# Altium footprint library 一体成型电感.PcbLib: 13 footprints
Each footprint in its own frame and in the unit in brackets; x right, y up, seen from the top. Pads: shape width x height; smd on the part's side, far side on the other; paste and mask are expansions set on the pad; w line width, h text height; cw(c..) or ccw(c..) is an arc to the next point about the centre after c.
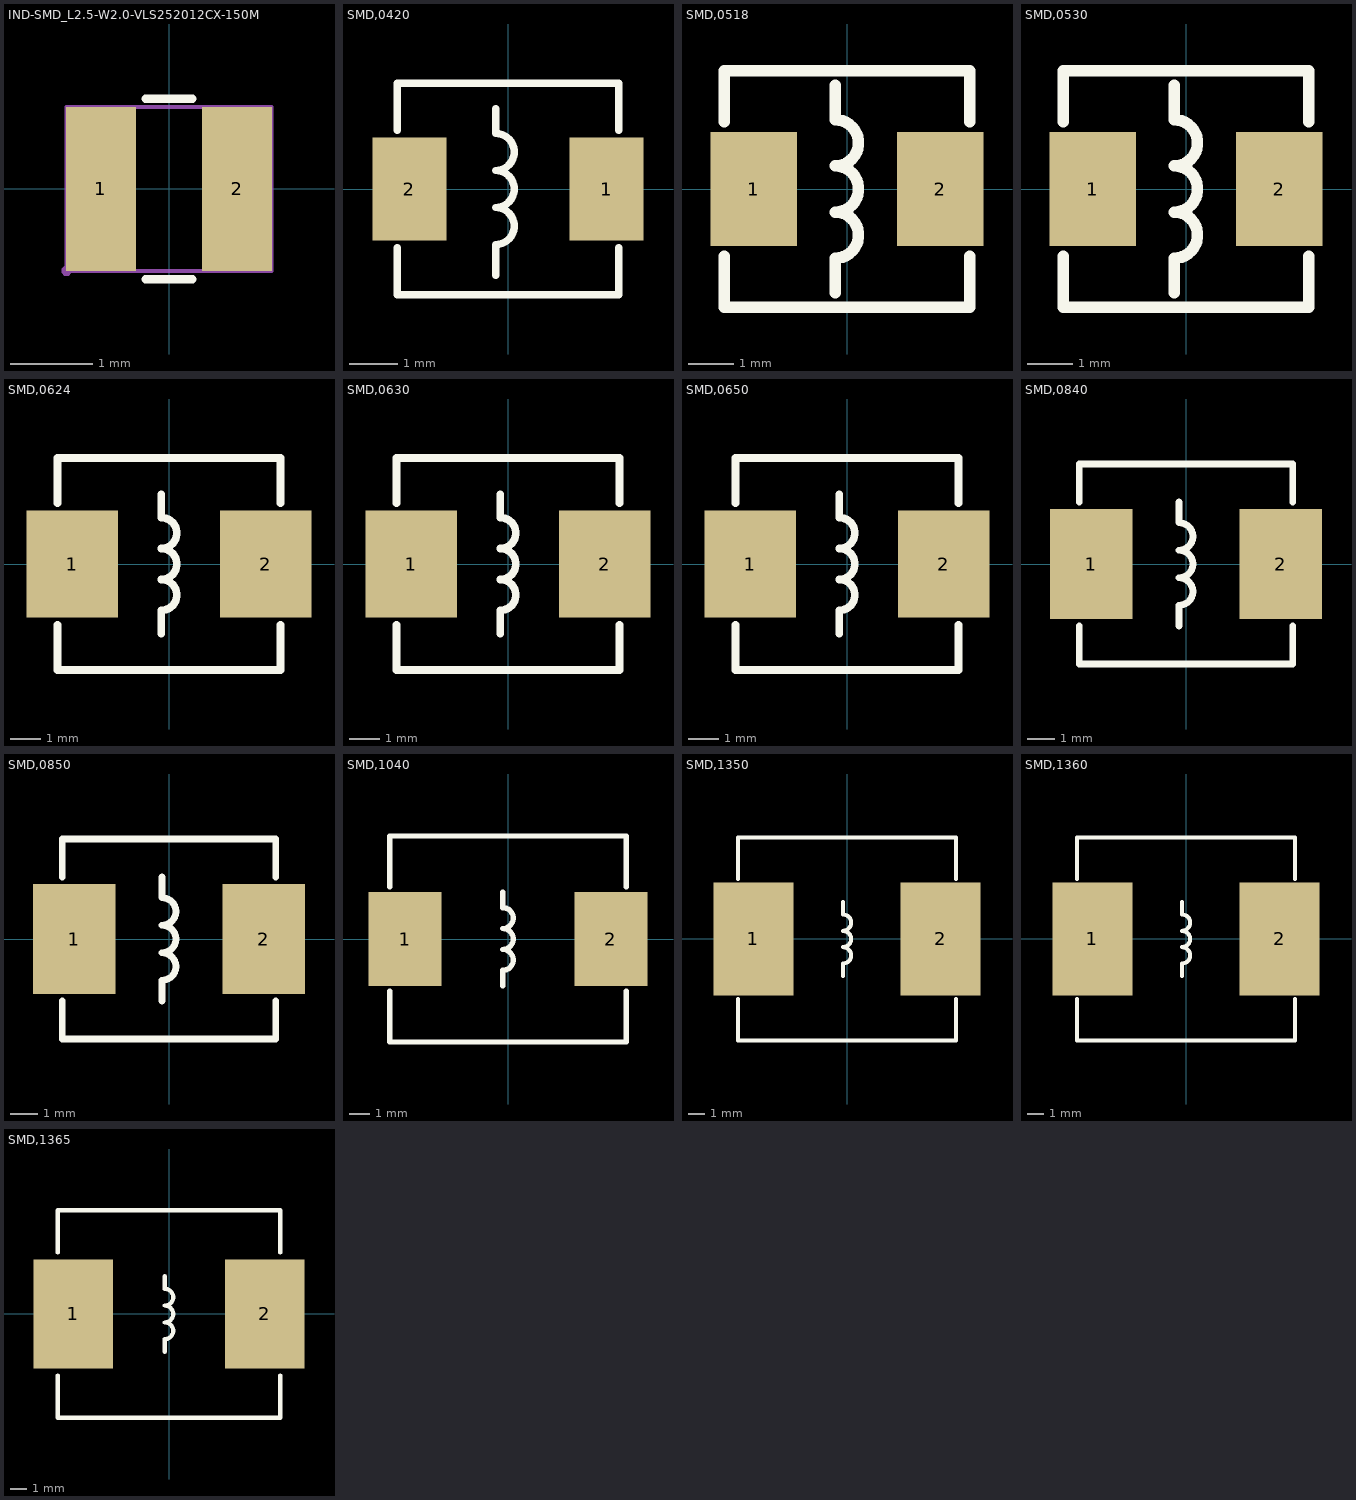
[diagram p0: the footprints below, top view; thin cyan lines are the x and y axes]

## IND-SMD_L2.5-W2.0-VLS252012CX-150M [mm]
pads (2):
  rect 0.85x2 smd: 1(-0.83,0) 2(0.83,0)
Top Overlay:
  lines w0.102: -0.288,-1.1 0.287,-1.1 ; -0.288,1.1 0.287,1.1
Mechanical 15:
  region: -1.19,-1 -1.19,-0.975 -1.225,-0.94 -1.275,-0.94 -1.31,-0.975 -1.31,-1 -1.31,-1.025 -1.275,-1.06 -1.225,-1.06 -1.19,-1.025
  region: -1.23,1 -0.43,1 -0.43,-1 -1.23,-1
  region: 0.43,1 1.23,1 1.23,-1 0.43,-1
  lines w0.051: -1.25,-1 -1.25,1 1.25,1 1.25,-1 -1.25,-1
3D body "U1.step": height 1.21, standoff 0, extent -1.251,-1.001 1.251,1.001

## SMD,0420 [mm]
pads (2):
  rect 1.524x2.12 smd paste-0.076: 1(2.028,0) 2(-2.028,0)
Top Overlay:
  lines w0.152: -2.276,-1.212 -2.276,-2.176 2.276,-2.176 2.276,-1.212 ; -2.276,1.212 -2.276,2.176 2.276,2.176 2.276,1.212 ; -0.254,-1.778 -0.254,-1.143 ccw(c-0.254,-0.762) -0.254,-0.381 ccw(c-0.254,0) -0.254,0.381 ccw(c-0.254,0.762) -0.254,1.143 -0.254,1.651
3D body "4020.step": height 2.1, standoff 0, extent -2.2,-2.1 2.2,2.1

## SMD,0518 [mm]
pads (2):
  rect 1.9x2.5 smd paste-0.076: 1(-2.05,0) 2(2.05,0)
Top Overlay:
  lines w0.254: -2.7,-1.481 -2.7,-2.6 2.7,-2.6 2.7,-1.481 ; -2.7,1.481 -2.7,2.6 2.7,2.6 2.7,1.481 ; -0.254,-2.286 -0.254,-1.524 ccw(c-0.254,-1.016) -0.254,-0.508 ccw(c-0.254,0) -0.254,0.508 ccw(c-0.254,1.016) -0.254,1.524 -0.254,2.286
3D body "vqgL-L2.step": height 2.81, standoff 0, extent -2.7,-2.6 2.7,2.6

## SMD,0530 [mm]
pads (2):
  rect 1.9x2.5 smd paste-0.076: 1(-2.05,0) 2(2.05,0)
Top Overlay:
  lines w0.254: -2.7,-1.481 -2.7,-2.6 2.7,-2.6 2.7,-1.481 ; -2.7,1.481 -2.7,2.6 2.7,2.6 2.7,1.481 ; -0.254,-2.286 -0.254,-1.524 ccw(c-0.254,-1.016) -0.254,-0.508 ccw(c-0.254,0) -0.254,0.508 ccw(c-0.254,1.016) -0.254,1.524 -0.254,2.286
3D body "vqgL-L2.step": height 2.81, standoff 0, extent -2.7,-2.6 2.7,2.6

## SMD,0624 [mm] "一体化成型电感"
pads (2):
  rect 3x3.5 smd paste-0.076: 1(-3.175,0) 2(3.175,0)
Top Overlay:
  lines w0.254: -3.658,-2.007 -3.658,-3.48 3.658,-3.48 3.658,-2.007 ; -3.658,2.007 -3.658,3.48 3.658,3.48 3.658,2.007 ; -0.254,-2.286 -0.254,-1.524 ccw(c-0.254,-1.016) -0.254,-0.508 ccw(c-0.254,0) -0.254,0.508 ccw(c-0.254,1.016) -0.254,1.524 -0.254,2.286
3D body "SMD-0630.STEP": height 3.05, standoff 0.02, extent -3.475,-3.3 3.475,3.3

## SMD,0630 [mm] "一体化成型电感"
pads (2):
  rect 3x3.5 smd paste-0.076: 1(-3.175,0) 2(3.175,0)
Top Overlay:
  lines w0.254: -3.658,-2.007 -3.658,-3.48 3.658,-3.48 3.658,-2.007 ; -3.658,2.007 -3.658,3.48 3.658,3.48 3.658,2.007 ; -0.254,-2.286 -0.254,-1.524 ccw(c-0.254,-1.016) -0.254,-0.508 ccw(c-0.254,0) -0.254,0.508 ccw(c-0.254,1.016) -0.254,1.524 -0.254,2.286
3D body "SMD-0630.STEP": height 3.05, standoff 0.02, extent -3.475,-3.3 3.475,3.3

## SMD,0650 [mm] "一体化成型电感"
pads (2):
  rect 3x3.5 smd paste-0.076: 1(-3.175,0) 2(3.175,0)
Top Overlay:
  lines w0.254: -3.658,-2.007 -3.658,-3.48 3.658,-3.48 3.658,-2.007 ; -3.658,2.007 -3.658,3.48 3.658,3.48 3.658,2.007 ; -0.254,-2.286 -0.254,-1.524 ccw(c-0.254,-1.016) -0.254,-0.508 ccw(c-0.254,0) -0.254,0.508 ccw(c-0.254,1.016) -0.254,1.524 -0.254,2.286
3D body "SMD-0630.STEP": height 3.05, standoff 0.02, extent -3.475,-3.3 3.475,3.3

## SMD,0840 [mil]
pads (2):
  rect 120x160 smd paste-3: 1(-137.87,0) 2(137.87,0)
Top Overlay:
  lines w10: -155,-90 -155,-145 155,-145 155,-90 ; -155,90 -155,145 155,145 155,90 ; -10,-90 -10,-60 ccw(c-10,-40) -10,-20 ccw(c-10,0) -10,20 ccw(c-10,40) -10,60 -10,90
3D body "vqgL-L8.step": height 196.85, standoff 0, extent -153.54,-141.73 153.54,141.73

## SMD,0850 [mil]
pads (2):
  rect 120x160 smd paste-3: 1(-137.87,0) 2(137.87,0)
Top Overlay:
  lines w10: -155,-90 -155,-145 155,-145 155,-90 ; -155,90 -155,145 155,145 155,90 ; -10,-90 -10,-60 ccw(c-10,-40) -10,-20 ccw(c-10,0) -10,20 ccw(c-10,40) -10,60 -10,90
3D body "vqgL-L8.step": height 196.85, standoff 0, extent -153.54,-141.73 153.54,141.73

## SMD,1040 [mil]
pads (2):
  rect 140x180 smd paste-3: 1(-197.01,0) 2(197.01,0)
Top Overlay:
  lines w10: -226.38,-100 -226.38,-196.85 226.38,-196.85 226.38,-100 ; -226.38,100 -226.38,196.85 226.38,196.85 226.38,100 ; -10,-90 -10,-60 ccw(c-10,-40) -10,-20 ccw(c-10,0) -10,20 ccw(c-10,40) -10,60 -10,90
3D body "vqgL-L4.step": height 228.74, standoff 0, extent -254.76,-253.03 274.76,243.03

## SMD,1350 [mm]
pads (2):
  rect 4.953x7 smd paste-0.127: 1(-5.8,0) 2(5.8,0)
Top Overlay:
  lines w0.254: -6.75,-3.731 -6.75,-6.3 6.75,-6.3 6.75,-3.731 ; -6.75,3.731 -6.75,6.3 6.75,6.3 6.75,3.731 ; -0.254,-2.286 -0.254,-1.524 ccw(c-0.254,-1.016) -0.254,-0.508 ccw(c-0.254,0) -0.254,0.508 ccw(c-0.254,1.016) -0.254,1.524 -0.254,2.286
3D body "vqgL-L4.step": height 5.81, standoff 0, extent -6.725,-6.427 6.725,6.173

## SMD,1360 [mm]
pads (2):
  rect 4.953x7 smd paste-0.127: 1(-5.8,0) 2(5.8,0)
Top Overlay:
  lines w0.254: -6.75,-3.731 -6.75,-6.3 6.75,-6.3 6.75,-3.731 ; -6.75,3.731 -6.75,6.3 6.75,6.3 6.75,3.731 ; -0.254,-2.286 -0.254,-1.524 ccw(c-0.254,-1.016) -0.254,-0.508 ccw(c-0.254,0) -0.254,0.508 ccw(c-0.254,1.016) -0.254,1.524 -0.254,2.286
3D body "vqgL-L4.step": height 5.81, standoff 0, extent -6.725,-6.427 6.725,6.173

## SMD,1365 [mil]
pads (2):
  rect 190x260 smd paste-5: 1(-228.35,0) 2(228.35,0)
Top Overlay:
  lines w10: -265.75,-146.9 -265.75,-248.03 265.75,-248.03 265.75,-146.9 ; -265.75,146.9 -265.75,248.03 265.75,248.03 265.75,146.9 ; -10,-90 -10,-60 ccw(c-10,-40) -10,-20 ccw(c-10,0) -10,20 ccw(c-10,40) -10,60 -10,90
3D body "vqgL-L4.step": height 228.74, standoff 0, extent -264.76,-253.03 264.76,243.03